# Altium schematic symbol library RC0201FR-0710KL.SchLib: 1 symbol
Pins are listed as number, name and electrical type; pins without a type are passive.

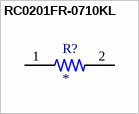
[diagram p0: symbol RC0201FR-0710KL]

## RC0201FR-0710KL
designator R?
RC0201 10,0K 1% 0,05W TK200; MP: RC0201FR-0710KL; MF: {'manufacturer': u'Yageo'}; Price: None; Availability: Unavailable; Value: *; Package: None
footprint RESC0603X26N
pins: 1, 2